# EAGLE library part 690368171472 (library WR-MM)
WR-MM Female Connector with Latch & w/o Polarization Material Properties Insulator Material PBT Insulator Flammability Rating UL94 V-0 Insulator Color Red Contact Material Phosphor Bronze Contact Plating Matte Tin over Nickel Contact Type Stamped Packaging Properties cULus Approval E323964 Packaging Tube General Information Operating Temperature -40 °C up to +105 °C Pitch 2.54 mm Gender Female Electrical Properties Working Voltage 250 V (AC) Withstanding Voltage 500 V (AC) Contact Resistance 10 mΩ RISO 1000 MΩ <https://www.we-online.com/components/media/o33162v209%20Multi-WR-MM-69036817xx72.jpg> Details see: www.we-online.com/en/components/products/MM_1_27_FEMALE_ANGLED_CONNECTOR_W_O_LATCH_WITH_POLARIZATION_69036817XX72_2 <www.we-online.com/catalog/MM_1_27_FEMALE_ANGLED_CONNECTOR_W_O_LATCH_WITH_POLARIZATION_69036817XX72_2/?utm_source=eagle_model&utm_medium=description_link&utm_campaign=eisos_eagle> Updated by Ella 2025-02-28 2025 (C) Würth Elektronik
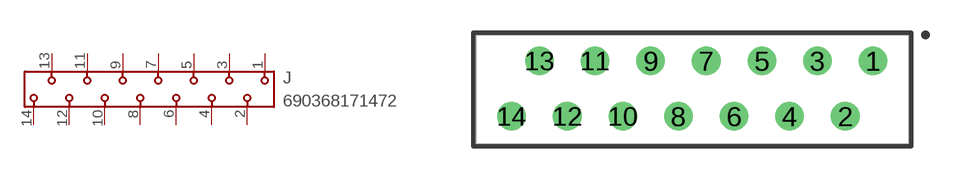
[diagram p34: symbol with the pads of 690357101472; footprint 690357101472]

Designator prefix J

## 690368171472 (DATASHEET-URL: https://www.we-online.com/redexpert/spec/690368171472?ae; GENDER: Female; IR: 1.5A; PACKAGING: Tube; PART-NUMBER: 690368171472; PINS: 14; PITCH: 2.54; TYPE: Angled; VALUE: 690368171472)  [690357101472]
1  1  pas
2  2  pas
3  3  pas
4  4  pas
5  5  pas
6  6  pas
7  7  pas
8  8  pas
9  9  pas
10  10  pas
11  11  pas
12  12  pas
13  13  pas
14  14  pas

## Footprint 690357101472 (pad centres in mm)
WR-MM Male Connector w/o Latch & w. Polarization, 14 Pins
drill 0.8: 1 8.255,1.315; 2 6.985,-1.225; 3 5.715,1.315; 4 4.445,-1.225; 5 3.175,1.315; 6 1.905,-1.225; 7 0.635,1.315; 8 -0.635,-1.225; 9 -1.905,1.315; 10 -3.175,-1.225; 11 -4.445,1.315; 12 -5.715,-1.225; 13 -6.985,1.315; 14 -8.255,-1.225